# Altium schematic symbol library Conn_JST_S2B-PH-K-S_LF_SN_eec.SchLib: 1 symbol
Pins are listed as number, name and electrical type; pins without a type are passive.

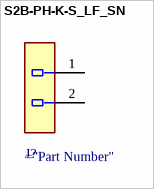
[diagram p0: symbol S2B-PH-K-S_LF_SN]

## S2B-PH-K-S_LF_SN
designator J?  (value not drawn)
pins: 1, 2